# Altium schematic symbol library Conn Receptacle Single Row.SchLib: 38 symbols
Pins are listed as number, name and electrical type; pins without a type are passive.

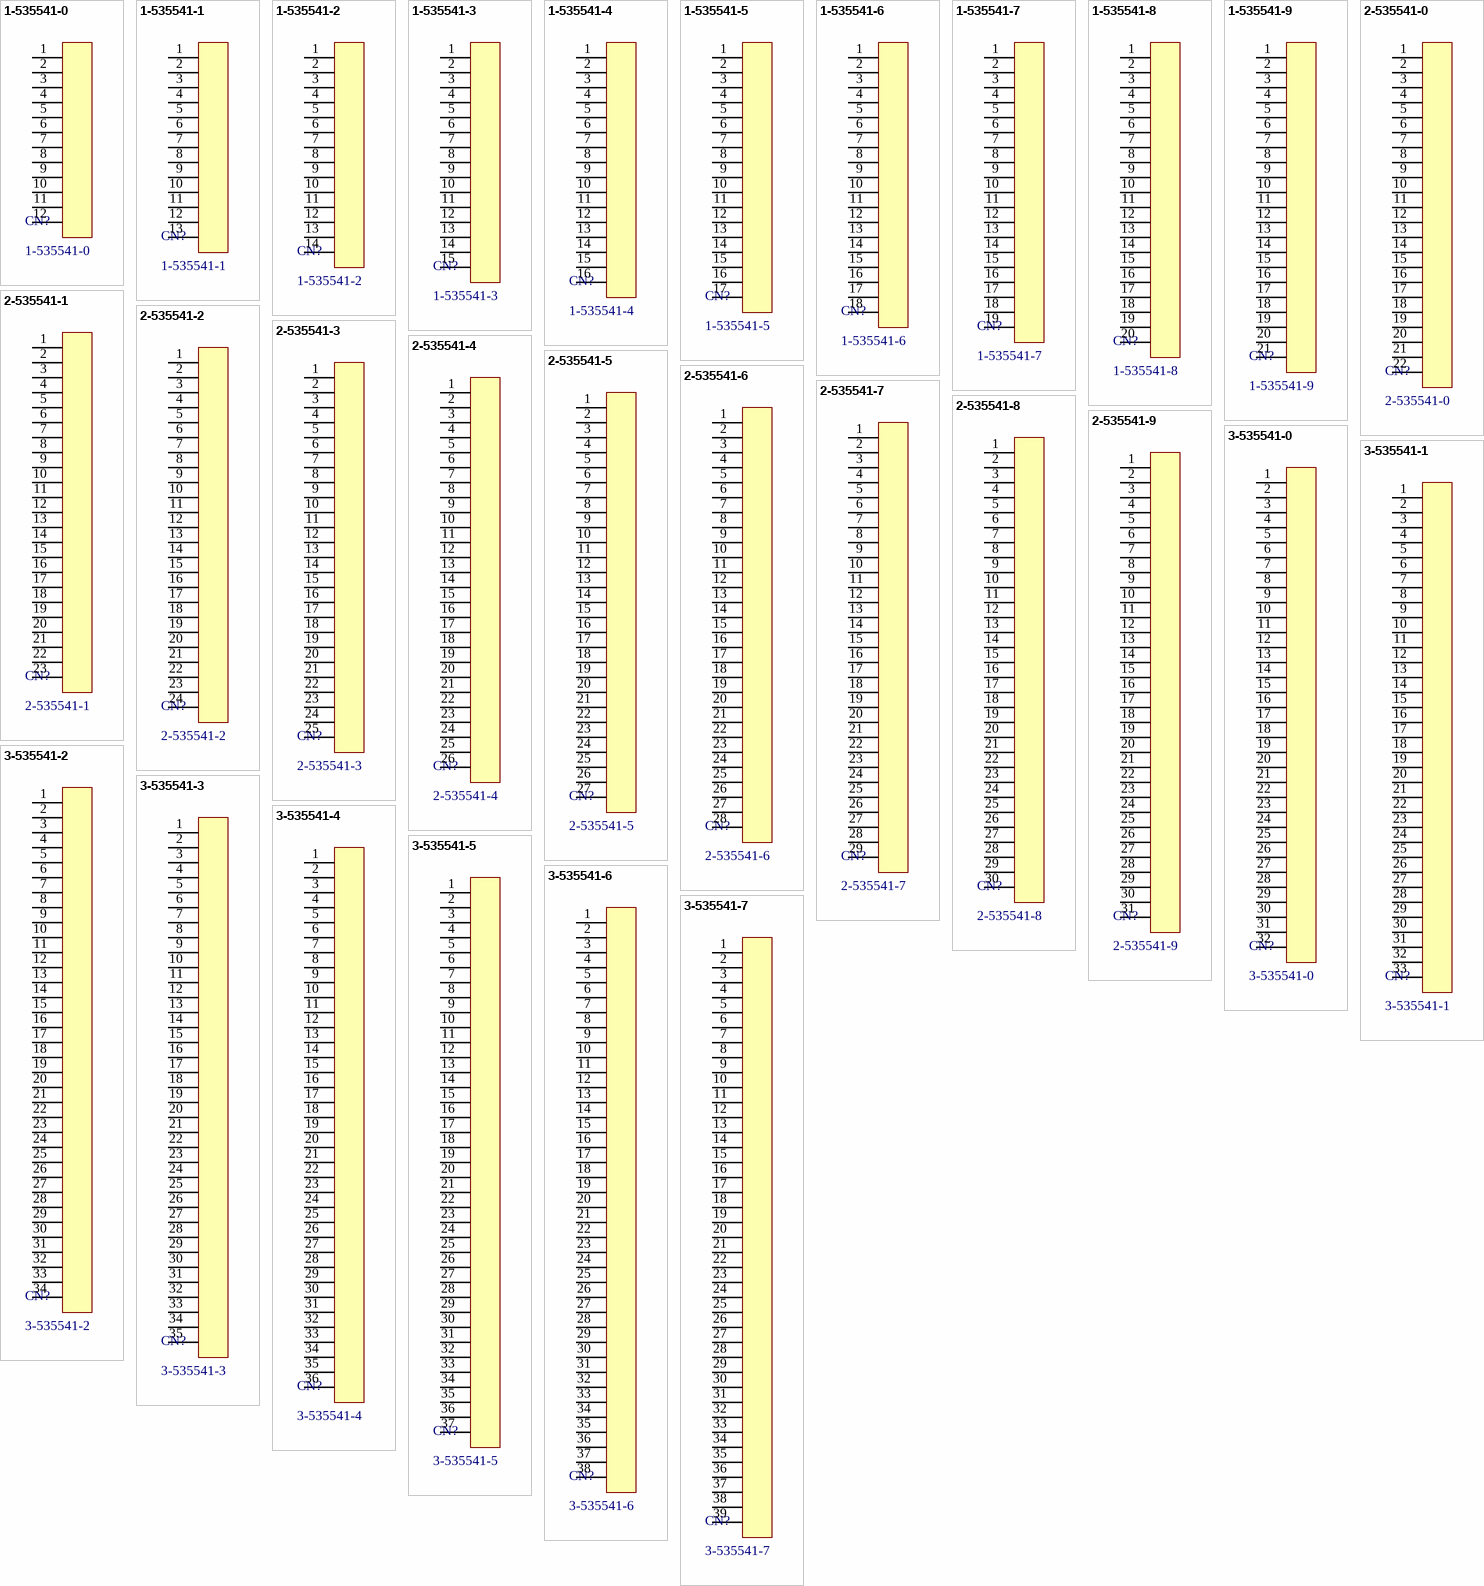
[diagram p0: symbols 1-535541-0 to 3-535541-7]

## 1-535541-0
designator CN?
CONN Receptacle Single Row Gold
footprint 1-535541-0 (CONN Receptacle Single Row Gold)
pins: 1, 2, 3, 4, 5, 6, 7, 8, 9, 10, 11, 12

## 1-535541-1
designator CN?
CONN Receptacle Single Row Gold
footprint 1-535541-1 (CONN Receptacle Single Row Gold)
pins: 1, 2, 3, 4, 5, 6, 7, 8, 9, 10, 11, 12, 13

## 1-535541-2
designator CN?
CONN Receptacle Single Row Gold
footprint 1-535541-2 (CONN Receptacle Single Row Gold)
pins: 1, 2, 3, 4, 5, 6, 7, 8, 9, 10, 11, 12, 13, 14

## 1-535541-3
designator CN?
CONN Receptacle Single Row Gold
footprint 1-535541-3 (CONN Receptacle Single Row Gold)
pins: 1, 2, 3, 4, 5, 6, 7, 8, 9, 10, 11, 12, 13, 14, 15

## 1-535541-4
designator CN?
CONN Receptacle Single Row Gold
footprint 1-535541-4 (CONN Receptacle Single Row Gold)
pins: 1, 2, 3, 4, 5, 6, 7, 8, 9, 10, 11, 12, 13, 14, 15, 16

## 1-535541-5
designator CN?
CONN Receptacle Single Row Gold
footprint 1-535541-5 (CONN Receptacle Single Row Gold)
pins: 1, 2, 3, 4, 5, 6, 7, 8, 9, 10, 11, 12, 13, 14, 15, 16, 17

## 1-535541-6
designator CN?
CONN Receptacle Single Row Gold
footprint 1-535541-6 (CONN Receptacle Single Row Gold)
pins: 1, 2, 3, 4, 5, 6, 7, 8, 9, 10, 11, 12, 13, 14, 15, 16, 17, 18

## 1-535541-7
designator CN?
CONN Receptacle Single Row Gold
footprint 1-535541-7 (CONN Receptacle Single Row Gold)
pins: 1, 2, 3, 4, 5, 6, 7, 8, 9, 10, 11, 12, 13, 14, 15, 16, 17, 18, 19

## 1-535541-8
designator CN?
CONN Receptacle Single Row Gold
footprint 1-535541-8 (CONN Receptacle Single Row Gold)
pins: 1, 2, 3, 4, 5, 6, 7, 8, 9, 10, 11, 12, 13, 14, 15, 16, 17, 18, 19, 20

## 1-535541-9
designator CN?
CONN Receptacle Single Row Gold
footprint 1-535541-9 (CONN Receptacle Single Row Gold)
pins: 1, 2, 3, 4, 5, 6, 7, 8, 9, 10, 11, 12, 13, 14, 15, 16, 17, 18, 19, 20, 21

## 2-535541-0
designator CN?
CONN Receptacle Single Row Gold
footprint 2-535541-0 (CONN Receptacle Single Row Gold)
pins: 1, 2, 3, 4, 5, 6, 7, 8, 9, 10, 11, 12, 13, 14, 15, 16, 17, 18, 19, 20, 21, 22

## 2-535541-1
designator CN?
CONN Receptacle Single Row Gold
footprint 2-535541-1 (CONN Receptacle Single Row Gold)
pins: 1, 2, 3, 4, 5, 6, 7, 8, 9, 10, 11, 12, 13, 14, 15, 16, 17, 18, 19, 20, 21, 22, 23

## 2-535541-2
designator CN?
CONN Receptacle Single Row Gold
footprint 2-535541-2 (CONN Receptacle Single Row Gold)
pins: 1, 2, 3, 4, 5, 6, 7, 8, 9, 10, 11, 12, 13, 14, 15, 16, 17, 18, 19, 20, 21, 22, 23, 24

## 2-535541-3
designator CN?
CONN Receptacle Single Row Gold
footprint 2-535541-3 (CONN Receptacle Single Row Gold)
pins: 1, 2, 3, 4, 5, 6, 7, 8, 9, 10, 11, 12, 13, 14, 15, 16, 17, 18, 19, 20, 21, 22, 23, 24, 25

## 2-535541-4
designator CN?
CONN Receptacle Single Row Gold
footprint 2-535541-4 (CONN Receptacle Single Row Gold)
pins: 1, 2, 3, 4, 5, 6, 7, 8, 9, 10, 11, 12, 13, 14, 15, 16, 17, 18, 19, 20, 21, 22, 23, 24, 25, 26

## 2-535541-5
designator CN?
CONN Receptacle Single Row Gold
footprint 2-535541-5 (CONN Receptacle Single Row Gold)
pins: 1, 2, 3, 4, 5, 6, 7, 8, 9, 10, 11, 12, 13, 14, 15, 16, 17, 18, 19, 20, 21, 22, 23, 24, 25, 26, 27

## 2-535541-6
designator CN?
CONN Receptacle Single Row Gold
footprint 2-535541-6 (CONN Receptacle Single Row Gold)
pins: 1, 2, 3, 4, 5, 6, 7, 8, 9, 10, 11, 12, 13, 14, 15, 16, 17, 18, 19, 20, 21, 22, 23, 24, 25, 26, 27, 28

## 2-535541-7
designator CN?
CONN Receptacle Single Row Gold
footprint 2-535541-7 (CONN Receptacle Single Row Gold)
pins: 1, 2, 3, 4, 5, 6, 7, 8, 9, 10, 11, 12, 13, 14, 15, 16, 17, 18, 19, 20, 21, 22, 23, 24, 25, 26, 27, 28, 29

## 2-535541-8
designator CN?
CONN Receptacle Single Row Gold
footprint 2-535541-8 (CONN Receptacle Single Row Gold)
pins: 1, 2, 3, 4, 5, 6, 7, 8, 9, 10, 11, 12, 13, 14, 15, 16, 17, 18, 19, 20, 21, 22, 23, 24, 25, 26, 27, 28, 29, 30

## 2-535541-9
designator CN?
CONN Receptacle Single Row Gold
footprint 2-535541-9 (CONN Receptacle Single Row Gold)
pins: 1, 2, 3, 4, 5, 6, 7, 8, 9, 10, 11, 12, 13, 14, 15, 16, 17, 18, 19, 20, 21, 22, 23, 24, 25, 26, 27, 28, 29, 30, 31

## 3-535541-0
designator CN?
CONN Receptacle Single Row Gold
footprint 3-535541-0 (CONN Receptacle Single Row Gold)
pins: 1, 2, 3, 4, 5, 6, 7, 8, 9, 10, 11, 12, 13, 14, 15, 16, 17, 18, 19, 20, 21, 22, 23, 24, 25, 26, 27, 28, 29, 30, 31, 32

## 3-535541-1
designator CN?
CONN Receptacle Single Row Gold
footprint 3-535541-1 (CONN Receptacle Single Row Gold)
pins: 1, 2, 3, 4, 5, 6, 7, 8, 9, 10, 11, 12, 13, 14, 15, 16, 17, 18, 19, 20, 21, 22, 23, 24, 25, 26, 27, 28, 29, 30, 31, 32, 33

## 3-535541-2
designator CN?
CONN Receptacle Single Row Gold
footprint 3-535541-2 (CONN Receptacle Single Row Gold)
pins: 1, 2, 3, 4, 5, 6, 7, 8, 9, 10, 11, 12, 13, 14, 15, 16, 17, 18, 19, 20, 21, 22, 23, 24, 25, 26, 27, 28, 29, 30, 31, 32, 33, 34

## 3-535541-3
designator CN?
CONN Receptacle Single Row Gold
footprint 3-535541-3 (CONN Receptacle Single Row Gold)
pins: 1, 2, 3, 4, 5, 6, 7, 8, 9, 10, 11, 12, 13, 14, 15, 16, 17, 18, 19, 20, 21, 22, 23, 24, 25, 26, 27, 28, 29, 30, 31, 32, 33, 34, 35

## 3-535541-4
designator CN?
CONN Receptacle Single Row Gold
footprint 3-535541-4 (CONN Receptacle Single Row Gold)
pins: 1, 2, 3, 4, 5, 6, 7, 8, 9, 10, 11, 12, 13, 14, 15, 16, 17, 18, 19, 20, 21, 22, 23, 24, 25, 26, 27, 28, 29, 30, 31, 32, 33, 34, 35, 36

## 3-535541-5
designator CN?
CONN Receptacle Single Row Gold
footprint 3-535541-5 (CONN Receptacle Single Row Gold)
pins: 1, 2, 3, 4, 5, 6, 7, 8, 9, 10, 11, 12, 13, 14, 15, 16, 17, 18, 19, 20, 21, 22, 23, 24, 25, 26, 27, 28, 29, 30, 31, 32, 33, 34, 35, 36, 37

## 3-535541-6
designator CN?
CONN Receptacle Single Row Gold
footprint 3-535541-6 (CONN Receptacle Single Row Gold)
pins: 1, 2, 3, 4, 5, 6, 7, 8, 9, 10, 11, 12, 13, 14, 15, 16, 17, 18, 19, 20, 21, 22, 23, 24, 25, 26, 27, 28, 29, 30, 31, 32, 33, 34, 35, 36, 37, 38

## 3-535541-7
designator CN?
CONN Receptacle Single Row Gold
footprint 3-535541-7 (CONN Receptacle Single Row Gold)
pins: 1, 2, 3, 4, 5, 6, 7, 8, 9, 10, 11, 12, 13, 14, 15, 16, 17, 18, 19, 20, 21, 22, 23, 24, 25, 26, 27, 28, 29, 30, 31, 32, 33, 34, 35, 36, 37, 38, 39

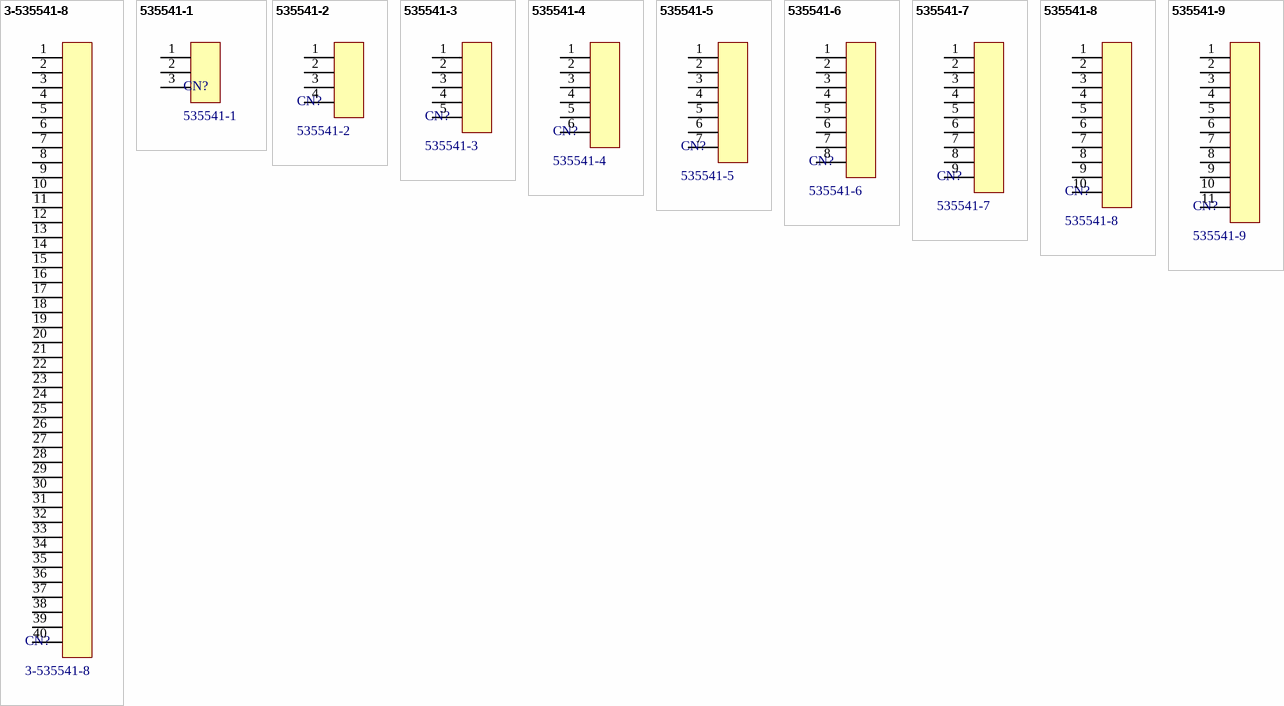
[diagram p1: symbols 3-535541-8 to 535541-9]

## 3-535541-8
designator CN?
CONN Receptacle Single Row Gold
footprint 3-535541-8 (CONN Receptacle Single Row Gold)
pins: 1, 2, 3, 4, 5, 6, 7, 8, 9, 10, 11, 12, 13, 14, 15, 16, 17, 18, 19, 20, 21, 22, 23, 24, 25, 26, 27, 28, 29, 30, 31, 32, 33, 34, 35, 36, 37, 38, 39, 40

## 535541-1
designator CN?
CONN Receptacle Single Row Gold
footprint 535541-1 (CONN Receptacle Single Row Gold)
pins: 1, 2, 3

## 535541-2
designator CN?
CONN Receptacle Single Row Gold
footprint 535541-2 (CONN Receptacle Single Row Gold)
pins: 1, 2, 3, 4

## 535541-3
designator CN?
CONN Receptacle Single Row Gold
footprint 535541-3 (CONN Receptacle Single Row Gold)
pins: 1, 2, 3, 4, 5

## 535541-4
designator CN?
CONN Receptacle Single Row Gold
footprint 535541-4 (CONN Receptacle Single Row Gold)
pins: 1, 2, 3, 4, 5, 6

## 535541-5
designator CN?
CONN Receptacle Single Row Gold
footprint 535541-5 (CONN Receptacle Single Row Gold)
pins: 1, 2, 3, 4, 5, 6, 7

## 535541-6
designator CN?
CONN Receptacle Single Row Gold
footprint 535541-6 (CONN Receptacle Single Row Gold)
pins: 1, 2, 3, 4, 5, 6, 7, 8

## 535541-7
designator CN?
CONN Receptacle Single Row Gold
footprint 535541-7 (CONN Receptacle Single Row Gold)
pins: 1, 2, 3, 4, 5, 6, 7, 8, 9

## 535541-8
designator CN?
CONN Receptacle Single Row Gold
footprint 535541-8 (CONN Receptacle Single Row Gold)
pins: 1, 2, 3, 4, 5, 6, 7, 8, 9, 10

## 535541-9
designator CN?
CONN Receptacle Single Row Gold
footprint 535541-9 (CONN Receptacle Single Row Gold)
pins: 1, 2, 3, 4, 5, 6, 7, 8, 9, 10, 11